# EAGLE library part SN74LXC2T45DCUR (library HyTechDevices)
SN74LXC2T45DCUR Level Shifter Datasheet <https://www.ti.com/lit/ds/symlink/sn74lxc2t45.pdf>
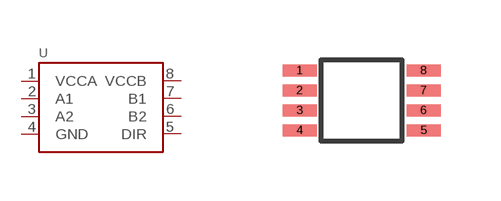
[diagram p82: symbol with the pads of 8-VSSOP; footprint 8-VSSOP]

Designator prefix -

## SN74LXC2T45DCUR (DKPN: 296-SN74LXC2T45DCUR*; MANUFACTURER: Texas Instruments; MOPN: 595-SN74LXC2T45DCUR; MPN: SN74LXC2T45DCUR)  [8-VSSOP]
1  VCCA  pwr
2  A1
3  A2
4  GND
5  DIR  in
6  B2
7  B1
8  VCCB  pwr

## Footprint 8-VSSOP (pad centres in mm)
smd 0.85 x 0.3: 1 -1.55,0.75; 2 -1.55,0.25; 3 -1.55,-0.25; 4 -1.55,-0.75; 5 1.55,-0.75; 6 1.55,-0.25; 7 1.55,0.25; 8 1.55,0.75